# Altium footprint library ELCAP_D6_3_H11_P2_5.PcbLib: 1 footprints
Each footprint in its own frame and in the unit in brackets; x right, y up, seen from the top. Pads: shape width x height; smd on the part's side, far side on the other; paste and mask are expansions set on the pad; w line width, h text height; cw(c..) or ccw(c..) is an arc to the next point about the centre after c.
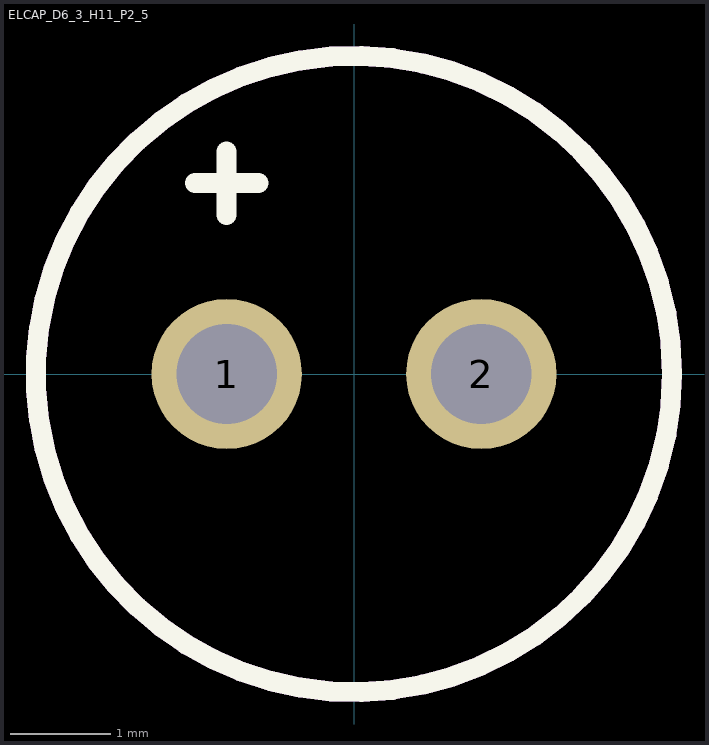
[diagram p0: the footprint, top view; thin cyan lines are the x and y axes]

## ELCAP_D6_3_H11_P2_5 [mm]
pads (2):
  round 1.5 hole 1: 1(-1.27,0) 2(1.27,0)
Top Overlay:
  circle w0.2: c0,0 r3.175
  lines w0.2: -1.587,1.905 -0.953,1.905 ; -1.27,1.587 -1.27,2.222
TopAssy:
  circle w0.2: c0,0 r3.175
  lines w0.2: -1.905,0 -0.635,0 ; -1.27,-0.635 -1.27,0.635
3D body "SW3dPS-Cap electro 6.3x11x2.5mm.STEP": height 11.53, standoff -3.01, extent -3.175,-3.175 3.176,3.176